# EAGLE library part DIP04-SMD (library 1_USER)
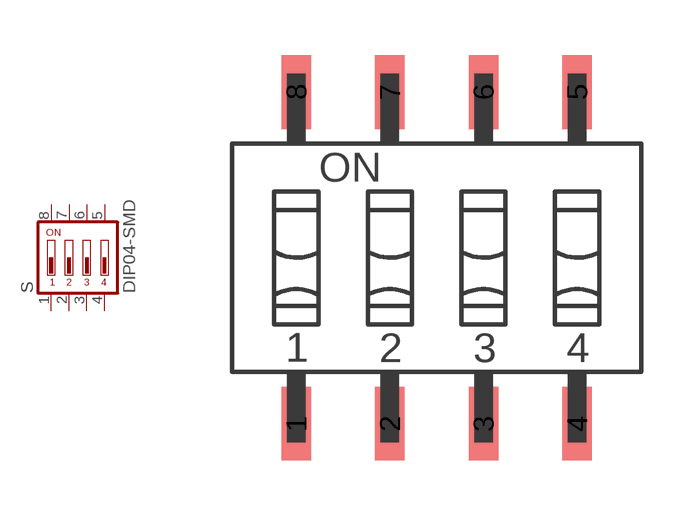
[diagram p17: symbol with the pads of DIP04-SMD; footprint DIP04-SMD]

Designator prefix S

## DIP04-SMD  [DIP04-SMD]
1  1  pas
2  2  pas
3  3  pas
4  4  pas
5  5  pas
6  6  pas
7  7  pas
8  8  pas

## Footprint DIP04-SMD (pad centres in mm)
smd 0.8 x 2: 1 -3.81,-4.5; 2 -1.27,-4.5; 3 1.27,-4.5; 4 3.81,-4.5; 5 3.81,4.5; 6 1.27,4.5; 7 -1.27,4.5; 8 -3.81,4.5